# EAGLE library part DF20 (library lvds)
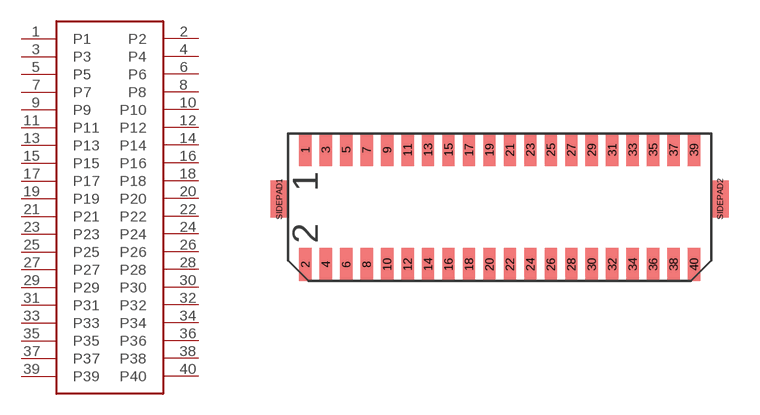
[diagram p1: symbol with the pads of DF20; footprint DF20]

Designator prefix -

## DF20  [DF20]
1  P1
2  P2
3  P3
4  P4
5  P5
6  P6
7  P7
8  P8
9  P9
10  P10
11  P11
12  P12
13  P13
14  P14
15  P15
16  P16
17  P17
18  P18
19  P19
20  P20
21  P21
22  P22
23  P23
24  P24
25  P25
26  P26
27  P27
28  P28
29  P29
30  P30
31  P31
32  P32
33  P33
34  P34
35  P35
36  P36
37  P37
38  P38
39  P39
40  P40

## Footprint DF20 (pad centres in mm)
smd 0.6 x 1.6: 1 -9.5,2.8; 2 -9.5,-2.8; 3 -8.5,2.8; 4 -8.5,-2.8; 5 -7.5,2.8; 6 -7.5,-2.8; 7 -6.5,2.8; 8 -6.5,-2.8; 9 -5.5,2.8; 10 -5.5,-2.8; 11 -4.5,2.8; 12 -4.5,-2.8; 13 -3.5,2.8; 14 -3.5,-2.8; 15 -2.5,2.8; 16 -2.5,-2.8; 17 -1.5,2.8; 18 -1.5,-2.8; 19 -0.5,2.8; 20 -0.5,-2.8; 21 0.5,2.8; 22 0.5,-2.8; 23 1.5,2.8; 24 1.5,-2.8; 25 2.5,2.8; 26 2.5,-2.8; 27 3.5,2.8; 28 3.5,-2.8; 29 4.5,2.8; 30 4.5,-2.8; 31 5.5,2.8; 32 5.5,-2.8; 33 6.5,2.8; 34 6.5,-2.8; 35 7.5,2.8; 36 7.5,-2.8; 37 8.5,2.8; 38 8.5,-2.8; 39 9.5,2.8; 40 9.5,-2.8
smd 0.85 x 1.8: SIDEPAD1 -10.775,0.4; SIDEPAD2 10.775,0.4